# EAGLE library part RT424012 (library ELECTROMECH)
General Purpose Relay DPDT (2 Form C) 12VDC Coil Through Hole
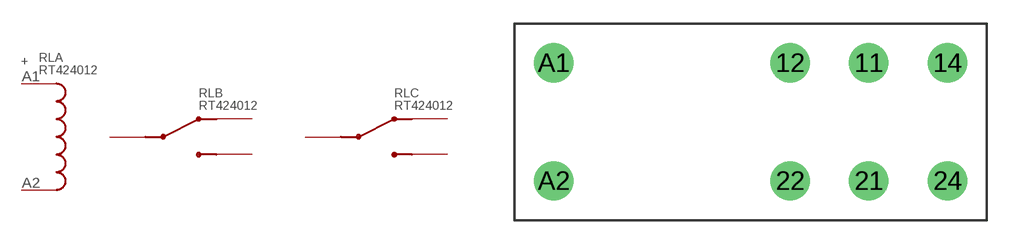
[diagram p0: symbol with the pads of 30MMDPDTRELAY; footprint 30MMDPDTRELAY]

Designator prefix RL; gates A=RELAY_COIL B=RELAY_CONTACT_SPDT C=RELAY_CONTACT_SPDT

## RT424012 (DIGIKEY: PB967-ND; HEIGHT: 16; PRICE_PER: 1.83; VALUE: RT424012)  [30MMDPDTRELAY]
11  B:1
12  B:2
14  B:3
21  C:1
22  C:2
24  C:3
A1  A:A1
A2  A:A2

## Footprint 30MMDPDTRELAY (pad centres in mm)
drill 1.5 pad 2.5: 11 7.5,3.75; 12 2.5,3.75; 14 12.5,3.75; 21 7.5,-3.75; 22 2.5,-3.75; 24 12.5,-3.75; A1 -12.5,3.75; A2 -12.5,-3.75